# Altium schematic symbol library USB16_TYPEC_4SH.SchLib: 1 symbol
Pins are listed as number, name and electrical type; pins without a type are passive.

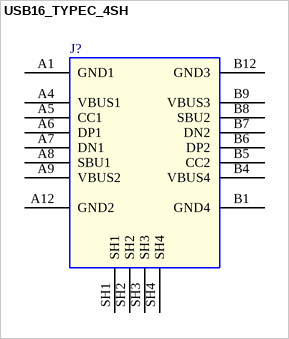
[diagram p0: symbol USB16_TYPEC_4SH]

## USB16_TYPEC_4SH
designator J?
CON 2X8 USB2.0_TYPE_C RCPT 0.85MM 144H AU 63L
pins: A1 GND1 (power), A4 VBUS1, A5 CC1, A6 DP1, A7 DN1, A8 SBU1, A9 VBUS2, A12 GND2 (power), B1 GND4 (power), B4 VBUS4, B5 CC2, B6 DP2, B7 DN2, B8 SBU2, B9 VBUS3, B12 GND3 (power), SH1 (power), SH2 (power), SH3 (power), SH4 (power)